# Altium footprint library Hydrated_Buffs.PcbLib: 3 footprints
Each footprint in its own frame and in the unit in brackets; x right, y up, seen from the top. Pads: shape width x height; smd on the part's side, far side on the other; paste and mask are expansions set on the pad; w line width, h text height; cw(c..) or ccw(c..) is an arc to the next point about the centre after c.
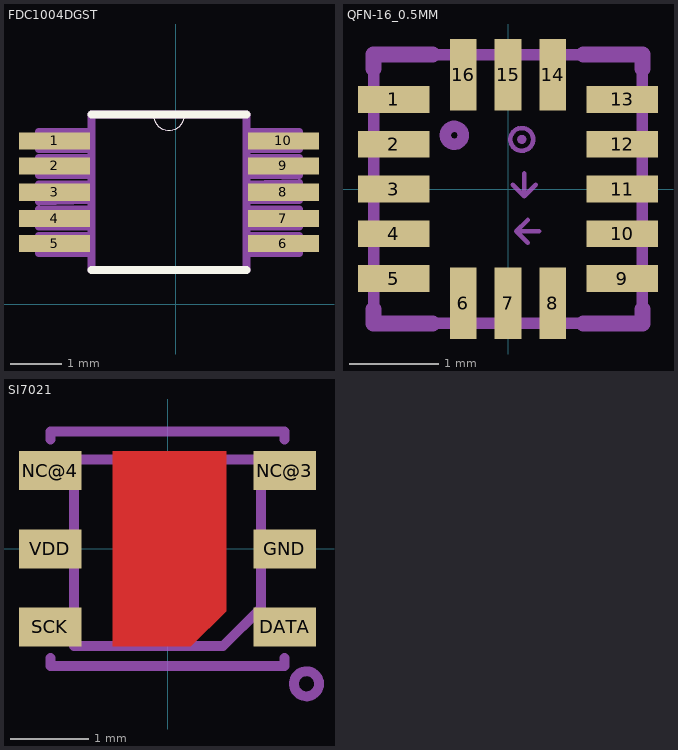
[diagram p0: the footprints below, top view; thin cyan lines are the x and y axes]

## FDC1004DGST [mil]
pads (10):
  rect 54x13 smd: 1(-92,124) 2(-92,105) 3(-92,85) 4(-92,65) 5(-92,46) 6(82,46) 7(82,65) 8(82,85) 9(82,105) 10(82,124)
Top Overlay:
  lines w0: -17,144 ccw(c-5,144) 7,144
  lines w6: -64,26 54,26 ; -64,144 -17,144 7,144 54,144
Mechanical 4:
  lines w0: -17,144 ccw(c-5,144) 7,144 cw(c-5,144) -17,144
  lines w6: -104,39 -104,52 ; -104,39 -64,39 ; -104,39 -104,52 ; -104,39 -64,39 ; -104,52 -64,52 ; -104,52 -64,52 ; -104,59 -104,72 ; -104,59 -64,59 ; -104,59 -104,72 ; -104,59 -64,59 ; -104,72 -64,72 ; -104,72 -64,72 ; -104,78 -104,91 ; -104,78 -64,79 ; -104,78 -104,91 ; -104,78 -64,79 ; -104,91 -64,91 ; -104,91 -64,91 ; -104,98 -104,111 ; -104,98 -64,98 ; -104,98 -104,111 ; -104,98 -64,98 ; -104,111 -64,111 ; -104,111 -64,111 ; -104,118 -104,131 ; -104,118 -64,118 ; -104,118 -104,131 ; -104,118 -64,118 ; -104,131 -64,131 ; -104,131 -64,131 ; -64,26 54,26 ; -64,26 -64,144 ; -64,26 54,26 ; -64,26 -64,144 ; -64,39 -64,52 ; -64,39 -64,52 ; -64,59 -64,72 ; -64,59 -64,72 ; -64,79 -64,91 ; -64,79 -64,91 ; -64,98 -64,111 ; -64,98 -64,111 ; -64,118 -64,131 ; -64,118 -64,131 ; -64,144 -17,144 ; -64,144 -17,144 ; -17,144 7,144 ; -17,144 7,144 ; 7,144 54,144 ; 7,144 54,144 ; 54,26 54,144 ; 54,26 54,144 ; 54,39 54,52 ; 54,39 94,39 ; 54,39 54,52 ; 54,39 94,39 ; 54,52 94,52 ; 54,52 94,52 ; 54,59 54,72 ; 54,59 94,59 ; 54,59 54,72 ; 54,59 94,59 ; 54,72 94,72 ; 54,72 94,72 ; 54,79 54,91 ; 54,79 94,79 ; 54,79 54,91 ; 54,79 94,79 ; 54,91 94,92 ; 54,91 94,92 ; 54,98 54,111 ; 54,98 94,98 ; 54,98 54,111 ; 54,98 94,98 ; 54,111 94,111 ; 54,111 94,111 ; 54,118 54,131 ; 54,118 94,118 ; 54,118 54,131 ; 54,118 94,118 ; 54,131 94,131 ; 54,131 94,131 ; 94,39 94,52 ; 94,39 94,52 ; 94,59 94,72 ; 94,59 94,72 ; 94,79 94,92 ; 94,79 94,92 ; 94,98 94,111 ; 94,98 94,111 ; 94,118 94,131 ; 94,118 94,131

## QFN-16_0.5MM [mil] "QFN-16_0.5MM"
pads (16):
  rect 31.5x11.81 smd: 1(-50.2,39.37) 2(-50.2,19.69) 3(-50.2,0) 4(-50.2,-19.69) 5(-50.2,-39.37) 9(50.2,-39.37) 10(50.2,-19.69) 11(50.2,0) 12(50.2,19.69) 13(50.2,39.37)
  rect 11.81x31.5 smd: 6(-19.69,-50.2) 7(0,-50.2) 8(19.69,-50.2) 14(19.69,50.2) 15(0,50.2) 16(-19.69,50.2)
Mechanical 2:
  circle w5: c-23.62,23.62 r3.94
  lines w7: -59.06,-52.88 -59.06,-59.06 -33.2,-59.06 ; -59.06,52.88 -59.06,59.06 -33.2,59.06 ; 33.2,-59.06 59.06,-59.06 59.06,-52.88 ; 33.2,59.06 59.06,59.06 59.06,52.88
Mechanical 8:
  circle w2: c6.06,21.81 r5
  circle w2: c6.06,21.81 r1
  region: -4.92,-55.12 -4.92,-36.73 4.92,-36.73 4.92,-55.12
  region: 14.76,-55.12 14.76,-36.73 24.61,-36.73 24.61,-55.12
  region: -24.61,-55.12 -24.61,-36.73 -14.76,-36.73 -14.76,-55.12
  region: 4.92,55.12 4.92,36.73 -4.92,36.73 -4.92,55.12
  region: 24.61,55.12 24.61,36.73 14.76,36.73 14.76,55.12
  region: -14.76,55.12 -14.76,36.73 -24.61,36.73 -24.61,55.12
  region: -55.12,-4.92 -55.12,4.92 -36.73,4.92 -36.73,-4.92
  region: -55.12,14.76 -55.12,24.61 -36.73,24.61 -36.73,14.76
  region: -55.12,34.45 -55.12,44.29 -36.73,44.29 -36.73,34.45
  region: -55.12,-24.61 -55.12,-14.76 -36.73,-14.76 -36.73,-24.61
  region: -55.12,-44.29 -55.12,-34.45 -36.73,-34.45 -36.73,-44.29
  region: 55.12,4.92 55.12,-4.92 36.73,-4.92 36.73,4.92
  region: 55.12,24.61 55.12,14.76 36.73,14.76 36.73,24.61
  region: 55.12,44.29 55.12,34.45 36.73,34.45 36.73,44.29
  region: 55.12,-14.76 55.12,-24.61 36.73,-24.61 36.73,-14.76
  region: 55.12,-34.45 55.12,-44.29 36.73,-44.29 36.73,-34.45
  lines w2: 2.13,1.81 7.13,-3.19 ; 7.13,6.81 7.13,-3.19 ; 8.62,-23.62 3.62,-18.62 ; 8.62,-13.62 3.62,-18.62 ; 12.13,1.81 7.13,-3.19 ; 13.62,-18.62 3.62,-18.62
  lines w5: -59.06,-59.06 -59.06,59.06 59.06,59.06 59.06,-59.06 -59.06,-59.06
  text "X" at -0.91,-11.72 h18.6
  text "Y" at -0.92,7.96 h18.6
  text "Z" at -2.38,27.65 h18.6

## SI7021 [mil]
pads (6):
  rect 31.5x19.69 smd: DATA(59.06,-39.37) GND(59.06,0) NC@3(59.06,39.37) NC@4(-59.06,39.37) SCK(-59.06,-39.37) VDD(-59.06,0)
Top Layer:
  region: -27.56,49.21 29.53,49.21 29.53,-31.5 11.81,-49.21 -27.56,-49.21
Top Paste:
  region: -21.65,41.34 21.65,41.34 21.65,-25.59 3.94,-43.31 -21.65,-43.31
Top Solder:
  region: -33.3,-53.4 -33.3,53.6 34.7,53.6 34.7,-53.4
Mechanical 2:
  circle w5: c70,-68 r6.32
  lines w5: -59,-55 -59,-59 59,-59 59,-55 ; -59,55 -59,59 59,59 59,55
Mechanical 8:
  circle w5: c0,0 r13.04
  lines w5: -47,-49 28,-49 47,-30 47,45 -47,45 -47,-48